# Altium schematic symbol library Sch for NFC.SchLib: 70 symbols (part 2 of 7)
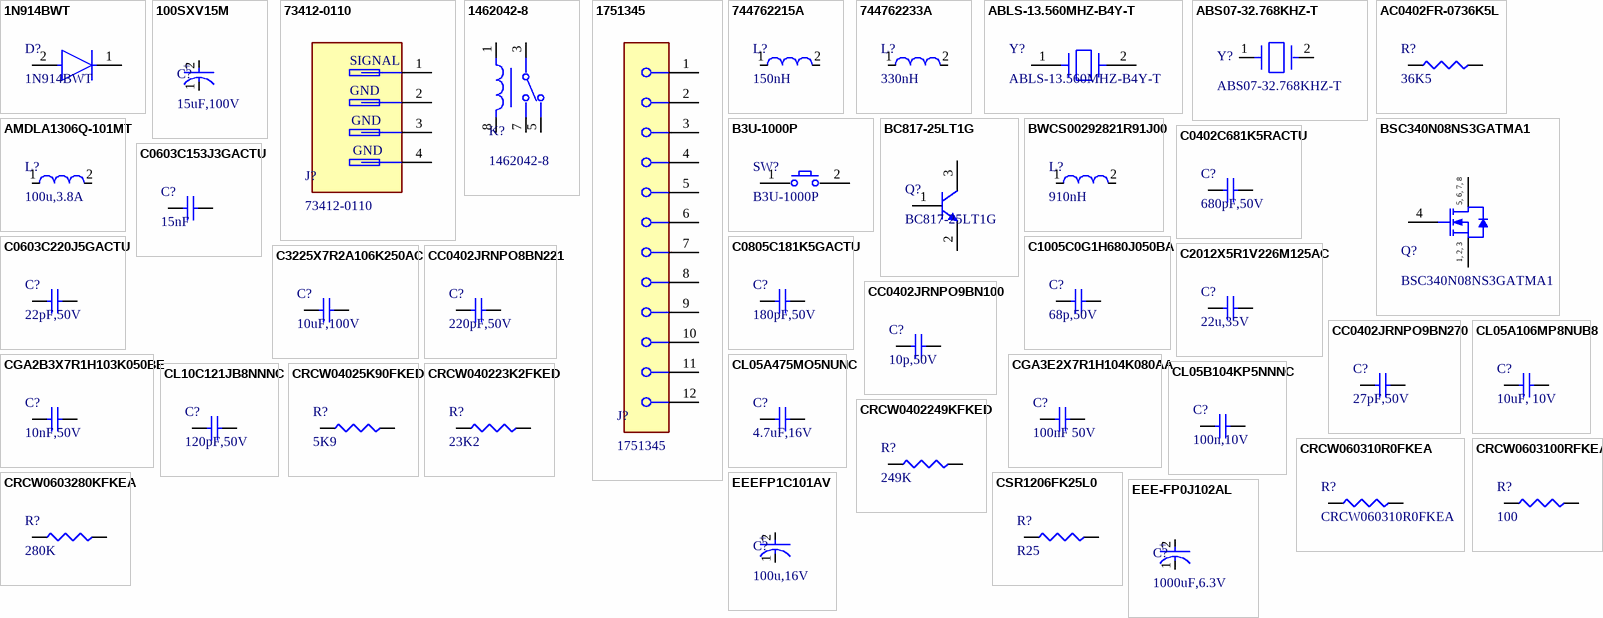
[diagram p2: symbols 1N914BWT to EEEFP1C101AV]

## AC0402FR-0736K5L
designator R?, comment 36K5
36.5 kOhms ±1% 0.063W, 1/16W Chip Resistor 0402 (1005 Metric) Automotive AEC-Q200, Moisture Resistant Thick Film; Manufacturer: Yageo Group; Manufacturer Part Number: AC0402FR-0736K5L; Max Power Dissipation: 63mW; Power Dissipation: 62.5mW; Value: 36.5kΩ; Temperature Coefficient: 100ppm/°C; Voltage Rating: 50V; Supplier: DigiKey; RoHS: Compliant; Category: Chip SMD Resistors; Stock: 33415; Pricing: 1=0.1, 10=0.008, 25=0.0068, 50=0.0052, 100=0.0041, 10000=0.00204 (USD); Case/Package: 0402; China RoHS: Non-Compliant; Composition: Thick Film; Features: Automotive AEC-Q200, Moisture Resistant; Height: 320µm; Length: 990.6µm; Lifecycle Status: Production; Max Operating Temperature: 155°C; Min Operating Temperature: -55°C; Mounting Technology: Surface Mount; Number of Terminals: 2; Number of Terminations: 2; Packaging: Tape & Reel; Power Rating: 62.5mW; REACH SVHC: Yes; Schedule B: 8533210045, 8533210045|8533210045|8533210045|8533210045|8533210045; Tolerance: 1%; Width: 500µm; Working Voltage: 50V; ComponentLink1URL: https://datasheet.octopart.com:443/AC0402FR-0736K5L-Yageo-datasheet-182189377.pdf?src-supplier=IHS; ComponentLink1Description: https://datasheet.octopart.com:443/AC0402FR-0736K5L-Yageo-datasheet-182189377.pdf?src-supplier=IHS; ComponentLink2URL: https://datasheet.octopart.com:443/AC0402FR-0736K5L-Yageo-datasheet-83209224.pdf?src-supplier=Upverter; ComponentLink2Description: https://datasheet.octopart.com:443/AC0402FR-0736K5L-Yageo-datasheet-83209224.pdf?src-supplier=Upverter; ComponentLink3URL: https://datasheet.octopart.com:443/AC0402FR-0736K5L-Yageo-datasheet-178509465.pdf?src-supplier=Newark; ComponentLink3Description: https://datasheet.octopart.com:443/AC0402FR-0736K5L-Yageo-datasheet-178509465.pdf?src-supplier=Newark; ComponentLink4URL: https://datasheet.octopart.com:443/AC0402FR-0736K5L-Yageo-datasheet-166720450.pdf?src-supplier=Future+Electronics; ComponentLink4Description: https://datasheet.octopart.com:443/AC0402FR-0736K5L-Yageo-datasheet-166720450.pdf?src-supplier=Future+Electronics; ComponentLink5URL: https://datasheet.octopart.com:443/AC0402FR-0736K5L-Yageo-datasheet-151884373.pdf?src-supplier=Future+Electronics; ComponentLink5Description: https://datasheet.octopart.com:443/AC0402FR-0736K5L-Yageo-datasheet-151884373.pdf?src-supplier=Future+Electronics; ComponentLink6URL: https://datasheet.octopart.com:443/AC0402FR-0736K5L-Yageo-datasheet-137699919.pdf?src-supplier=Future+Electronics; ComponentLink6Description: https://datasheet.octopart.com:443/AC0402FR-0736K5L-Yageo-datasheet-137699919.pdf?src-supplier=Future+Electronics; ComponentLink7URL: https://datasheet.octopart.com:443/AC0402FR-0736K5L-Yageo-Group-datasheet-164768995.pdf?src-supplier=ODG+(Origin+Data+Global); ComponentLink7Description: https://datasheet.octopart.com:443/AC0402FR-0736K5L-Yageo-Group-datasheet-164768995.pdf?src-supplier=ODG+(Origin+Data+Global); ComponentLink8URL: https://datasheet.octopart.com/AC0402FR-0736K5L-Yageo-datasheet-12512238.pdf; ComponentLink8Description: https://datasheet.octopart.com/AC0402FR-0736K5L-Yageo-datasheet-12512238.pdf; ComponentLink9URL: http://sigma.octopart.com:80/conflict_mineral_statement/Yageo-company-3.pdf?src-supplier=Compliance+Statements; ComponentLink9Description: http://sigma.octopart.com:80/conflict_mineral_statement/Yageo-company-3.pdf?src-supplier=Compliance+Statements; ComponentLink10URL: http://sigma.octopart.com:80/rohs_statement/Yageo-company-2.pdf?src-supplier=Compliance+Statements; ComponentLink10Description: http://sigma.octopart.com:80/rohs_statement/Yageo-company-2.pdf?src-supplier=Compliance+Statements; LCSC PN: C144766
footprint RESC1005X37N
pins: 1, 2

## AMDLA1306Q-101MT
designator L?, comment 100u,3.8A
100 µH Shielded Molded Inductor 3.8 A 161mOhm Max Nonstandard; Manufacturer: Abracon; Manufacturer Part Number: AMDLA1306Q-101MT; DC Resistance (DCR): 161mΩ; Value: 100µH; Number of Circuits: 1; Shielding: Yes; Test Frequency: 100kHz; Tolerance: 20%; Supplier: DigiKey; RoHS: Compliant; Category: Fixed Inductors; Pricing: 500=0.69478 (USD); Height: 6.2mm; Lifecycle Status: Production; Max Current Rating: 3.8A; Max Operating Temperature: 155°C; Min Operating Temperature: -55°C; Number of Terminals: 2; REACH SVHC: Yes; Width: 12.6mm; ComponentLink1URL: https://datasheet.octopart.com:443/AMDLA1306Q-101MT-Abracon-datasheet-182205435.pdf?src-supplier=IHS; ComponentLink1Description: https://datasheet.octopart.com:443/AMDLA1306Q-101MT-Abracon-datasheet-182205435.pdf?src-supplier=IHS; ComponentLink2URL: http://sigma.octopart.com:80/conflict_mineral_statement/Abracon-company-27.pdf?src-supplier=Compliance+Statements; ComponentLink2Description: http://sigma.octopart.com:80/conflict_mineral_statement/Abracon-company-27.pdf?src-supplier=Compliance+Statements; LCSC PN: C1016338
footprint COIL-SMD-100U-3.8A
pins: 1, 2

## B3U-1000P
designator SW?
Switch Tactile N.O. SPST Round Button Solder Tab 12VDC 50mA 200000Cycles 1.5N SMD Emboss T/R; Manufacturer: Omron; Manufacturer Package Identifier: B3U-1000P(M); Actuator Length: 400µm; Contact Resistance: 100mΩ; Electrical Life: 200kcycles; Illumination Type: Illuminated, Non-Illuminated; Max Voltage Rating (DC): 12V; Number of Positions: 1; Operating Force: 1.99N; Ratings: Dust Proof, IP40; Sealable: DUST PROOF; Switch Function: Off-Mom; Switch Travel: 150µm; Supplier: DigiKey; Manufacturer Part Number: B3U-1000P; RoHS: Compliant; Category: Tactile Switches; Stock: 62631; Pricing: 1=0.94, 10=0.759, 25=0.7368, 100=0.6909, 250=0.63796, 500=0.57526, 1000=0.57268, 3500=0.54684, 7000=0.54096, 10500=0.5099 (USD); Ambient Temperature Range High: 70°C; Color: Silver; Contact Current Rating: 50mA; Contact Material: Silver; Contact Plating: Silver; Current Rating: 50mA; Depth: 2.5mm; Height: 1.2mm; Insulation Resistance: 100MΩ; Lead Free: Lead Free; Length: 3mm; Life (Cycles): 200kcycles; Lifecycle Status: Production; Max Current Rating: 50mA; Max Operating Temperature: 70°C; Mechanical Life: 200kcycles; Min Operating Temperature: -25°C; Mounting Technology: Surface Mount; Pins: 2; Packaging: Tape and Reel; REACH SVHC: Yes; Termination: SMD/SMT; Throw Configuration: SPST; Voltage Rating (DC): 12V; Weight: 21.99923mg; Width: 2.5mm; ComponentLink1URL: https://datasheet.octopart.com:443/B3U-1000P-Omron-datasheet-62106914.pdf?src-supplier=IHS; ComponentLink1Description: https://datasheet.octopart.com:443/B3U-1000P-Omron-datasheet-62106914.pdf?src-supplier=IHS; ComponentLink2URL: https://datasheet.octopart.com:443/B3U-1000P-Omron-datasheet-10910421.pdf?src-supplier=RS+(Formerly+Allied+Electronics); ComponentLink2Description: https://datasheet.octopart.com:443/B3U-1000P-Omron-datasheet-10910421.pdf?src-supplier=RS+(Formerly+Allied+Electronics); ComponentLink3URL: https://datasheet.octopart.com:443/B3U-1000P-Omron-datasheet-5458533.pdf?src-supplier=Upverter; ComponentLink3Description: https://datasheet.octopart.com:443/B3U-1000P-Omron-datasheet-5458533.pdf?src-supplier=Upverter; ComponentLink4URL: https://datasheet.octopart.com:443/B3U-1000P-Omron-datasheet-11968313.pdf?src-supplier=SOS+electronic; ComponentLink4Description: https://datasheet.octopart.com:443/B3U-1000P-Omron-datasheet-11968313.pdf?src-supplier=SOS+electronic; ComponentLink5URL: https://datasheet.octopart.com:443/B3U-1000P-Omron-datasheet-110759174.pdf?src-supplier=Newark; ComponentLink5Description: https://datasheet.octopart.com:443/B3U-1000P-Omron-datasheet-110759174.pdf?src-supplier=Newark; ComponentLink6URL: https://datasheet.octopart.com:443/B3U-1000P-Omron-datasheet-506776.pdf?src-supplier=Newark; ComponentLink6Description: https://datasheet.octopart.com:443/B3U-1000P-Omron-datasheet-506776.pdf?src-supplier=Newark; ComponentLink7URL: https://datasheet.octopart.com:443/B3U-1000P-Omron-datasheet-17589256.pdf?src-supplier=TME; ComponentLink7Description: https://datasheet.octopart.com:443/B3U-1000P-Omron-datasheet-17589256.pdf?src-supplier=TME; LCSC PN: C231329
footprint SW_PUSHBOTTON_B3U-1000P
pins: 1, 2

## BC817-25LT1G
designator Q?
Bipolar (BJT) Transistor NPN 45 V 500 mA 100MHz 300 mW Surface Mount SOT-23-3 (TO-236); Manufacturer: onsemi; Manufacturer Lifecycle Status: ACTIVE; Collector Base Voltage (VCBO): 50V; Collector Emitter Breakdown Voltage: 45V; Collector Emitter Saturation Voltage: 700mV; Current Rating: 500mA; Element Configuration: Single; Emitter Base Voltage (VEBO): 5V; hFE Min: 160; Max Power Dissipation: 300mW; Number of Elements: 1; Supplier: DigiKey; Manufacturer Part Number: BC817-25LT1G; RoHS: Compliant; Category: BJTs; Stock: 142814; Pricing: 1=0.15, 10=0.094, 100=0.0578, 500=0.04192, 1000=0.03675, 3000=0.03013, 6000=0.02679, 9000=0.02508, 15000=0.02315, 21000=0.02201, 30000=0.0209, 75000=0.01847, 150000=0.01696, 300000=0.0157 (USD); Case/Package: SOT-23-3; China RoHS: Compliant; Collector Emitter Voltage (VCEO): 45V; Contact Plating: Tin; Frequency: 100MHz; Gain Bandwidth Product: 100MHz; Halogen Free: Halogen Free; Height: 940µm; Lead Free: Lead Free; Length: 2.9mm; Lifecycle Status: Production; Max Breakdown Voltage: 45V; Max Collector Current: 500mA; Clock Frequency: 100MHz; Max Operating Temperature: 150°C; Min Operating Temperature: -65°C; Pins: 3; Number of Terminals: 3; Packaging: Tape and Reel; Polarity: NPN; Power Dissipation: 300mW; Radiation Hardening: No; REACH SVHC: Yes; Schedule B: 8541210080, 8541210080|8541210080|8541210080|8541210080|8541210080|8541210080|8541210080|8541210080|8541210080|8541210080|8541210080|8541210080|8541210080|8541210080|8541210080|8541210080|8541210080|8541210080|8541210080|8541210080|8541210080|8541210080|8541210080|85; Transition Frequency: 100MHz; Width: 1.3mm; ComponentLink1URL: https://datasheet.octopart.com:443/BC817-25LT1G-onsemi-datasheet-175914671.pdf?src-supplier=IHS; ComponentLink1Description: https://datasheet.octopart.com:443/BC817-25LT1G-onsemi-datasheet-175914671.pdf?src-supplier=IHS; ComponentLink2URL: https://datasheet.octopart.com:443/BC817-25LT1G-ON-Semiconductor-datasheet-11547464.pdf?src-supplier=Farnell; ComponentLink2Description: https://datasheet.octopart.com:443/BC817-25LT1G-ON-Semiconductor-datasheet-11547464.pdf?src-supplier=Farnell; ComponentLink3URL: https://datasheet.octopart.com:443/BC817-25LT1G-onsemi-datasheet-170668855.pdf?src-supplier=Farnell; ComponentLink3Description: https://datasheet.octopart.com:443/BC817-25LT1G-onsemi-datasheet-170668855.pdf?src-supplier=Farnell; ComponentLink4URL: https://datasheet.octopart.com:443/BC817-25LT1G-ON-Semiconductor-datasheet-8110464.pdf?src-supplier=Newark; ComponentLink4Description: https://datasheet.octopart.com:443/BC817-25LT1G-ON-Semiconductor-datasheet-8110464.pdf?src-supplier=Newark; ComponentLink5URL: https://datasheet.octopart.com:443/BC817-25LT1G-ON-Semiconductor-datasheet-6400296.pdf?src-supplier=Newark; ComponentLink5Description: https://datasheet.octopart.com:443/BC817-25LT1G-ON-Semiconductor-datasheet-6400296.pdf?src-supplier=Newark; ComponentLink6URL: https://datasheet.octopart.com:443/BC817-25LT1G-ON-Semiconductor-datasheet-37521415.pdf?src-supplier=Newark; ComponentLink6Description: https://datasheet.octopart.com:443/BC817-25LT1G-ON-Semiconductor-datasheet-37521415.pdf?src-supplier=Newark; ComponentLink7URL: https://datasheet.octopart.com:443/BC817-25LT1G-ON-Semiconductor-datasheet-78758879.pdf?src-supplier=element14+APAC; ComponentLink7Description: https://datasheet.octopart.com:443/BC817-25LT1G-ON-Semiconductor-datasheet-78758879.pdf?src-supplier=element14+APAC; ComponentLink8URL: https://datasheet.octopart.com:443/BC817-25LT1G-ON-Semiconductor-datasheet-133521192.pdf?src-supplier=TME; ComponentLink8Description: https://datasheet.octopart.com:443/BC817-25LT1G-ON-Semiconductor-datasheet-133521192.pdf?src-supplier=TME; ComponentLink9URL: https://datasheet.octopart.com:443/BC817-25LT1G-ON-Semiconductor-datasheet-8514921.pdf?src-supplier=TME; ComponentLink9Description: https://datasheet.octopart.com:443/BC817-25LT1G-ON-Semiconductor-datasheet-8514921.pdf?src-supplier=TME; ComponentLink10URL: https://datasheet.octopart.com:443/BC817-25LT1G-ON-Semiconductor-datasheet-14064575.pdf?src-supplier=iiiC; ComponentLink10Description: https://datasheet.octopart.com:443/BC817-25LT1G-ON-Semiconductor-datasheet-14064575.pdf?src-supplier=iiiC; ComponentLink11URL: https://datasheet.octopart.com:443/BC817-25LT1G-ON-Semiconductor-datasheet-7835642.pdf?src-supplier=Jameco; ComponentLink11Description: https://datasheet.octopart.com:443/BC817-25LT1G-ON-Semiconductor-datasheet-7835642.pdf?src-supplier=Jameco; ComponentLink12URL: http://sigma.octopart.com:80/15540786/rohs_certificate/ON-Semiconductor-BC817-25LT1G.pdf?src-supplier=Compliance+Statements; ComponentLink12Description: http://sigma.octopart.com:80/15540786/rohs_certificate/ON-Semiconductor-BC817-25LT1G.pdf?src-supplier=Compliance+Statements; ComponentLink13URL: http://sigma.octopart.com:80/15674305/materials_sheet/ON-Semiconductor-BC817-25LT1G.csv?src-supplier=Compliance+Statements; ComponentLink13Description: http://sigma.octopart.com:80/15674305/materials_sheet/ON-Semiconductor-BC817-25LT1G.csv?src-supplier=Compliance+Statements; ComponentLink14URL: http://sigma.octopart.com:80/150605443/rohs_statement/ON-Semiconductor-BC817-25LT1G.pdf?src-supplier=Compliance+Statements; ComponentLink14Description: http://sigma.octopart.com:80/150605443/rohs_statement/ON-Semiconductor-BC817-25LT1G.pdf?src-supplier=Compliance+Statements; ComponentLink15URL: http://sigma.octopart.com:80/reach_statement/ON-Semiconductor-company-79.pdf?src-supplier=Compliance+Statements; ComponentLink15Description: http://sigma.octopart.com:80/reach_statement/ON-Semiconductor-company-79.pdf?src-supplier=Compliance+Statements; ComponentLink16URL: https://octopart.com:443/opatz8j6/c1?t=FMsNQxrESUyRCPfq8gEj-DENtH3fHkNbbx7UbSs21QzU062yKLGbhUPUpIPy5Xi2ZgBFMEWC5ngHpKXITW9o0rg8ZidRfVCdiF7DZxIUHj2cNfr8gf2p9sCWHDNE-sxkc6W2BttQviWA7OCItC8CjtgmEljBkJW6GmILXQbN04cp2GQUqNfi_HUatOdtl3tLh4sFZvT2DatCOdRbxwA31VwVMIuNhQnoyD21S4-x6Z79kKhsk9HH9ZODpaAlNr6omSmc7dMXiU0xuY1E2aXtxCwt8dPdGEJSzGfpDZ8ebuqGRHbHeVQrJUO3-XmL1gKZT6KZ_KTGZyS5nRtcW4b1fsWAnEei7rLIFfCT6CDP&src-supplier=Compliance+Statements; ComponentLink16Description: https://octopart.com:443/opatz8j6/c1?t=FMsNQxrESUyRCPfq8gEj-DENtH3fHkNbbx7UbSs21QzU062yKLGbhUPUpIPy5Xi2ZgBFMEWC5ngHpKXITW9o0rg8ZidRfVCdiF7DZxIUHj2cNfr8gf2p9sCWHDNE-sxkc6W2BttQviWA7OCItC8CjtgmEljBkJW6GmILXQbN04cp2GQUqNfi_HUatOdtl3tLh4sFZvT2DatCOdRbxwA31VwVMIuNhQnoyD21S4-x6Z79kKhsk9HH9ZODpaAlNr6omSmc7dMXiU0xuY1E2aXtxCwt8dPdGEJSzGfpDZ8ebuqGRHbHeVQrJUO3-XmL1gKZT6KZ_KTGZyS5nRtcW4b1fsWAnEei7rLIFfCT6CDP&src-supplier=Compliance+Statements; ComponentLink17URL: https://octopart.com:443/opatz8j6/c1?t=nUlRrpbF6WczGPO4pfpwBQnU8fi4iCX0epaFCyCK5fth2mOyA6hTCg2G-3-aRRCFw6eqU5JL2JnXrg6A8MVo7KmYt6NPPgcW19QVy9UVLDMw0wHerXAS-lYwjKrGA4wCzbzo9kSFOmU6PWTwVGPEy2GV6BB97n73KCQuFBzDaEH8TUlznyjJWhX0CV-DoAJbMyOpHAIak4qDziO0AtpTCMCbDoHlJldnv_22h4vP_pcU7ZMh310hdqdTKbwu0WkHWG1jzAabqffap4mChuo48GQ05l2336dYBbKSVi3hosrG61bKpJQhz_hO3_YlwH57PQUCekH-ynXCso-DdhQFN3ouqaKvySp1Gcbov0g&src-supplier=Compliance+Statements; ComponentLink17Description: https://octopart.com:443/opatz8j6/c1?t=nUlRrpbF6WczGPO4pfpwBQnU8fi4iCX0epaFCyCK5fth2mOyA6hTCg2G-3-aRRCFw6eqU5JL2JnXrg6A8MVo7KmYt6NPPgcW19QVy9UVLDMw0wHerXAS-lYwjKrGA4wCzbzo9kSFOmU6PWTwVGPEy2GV6BB97n73KCQuFBzDaEH8TUlznyjJWhX0CV-DoAJbMyOpHAIak4qDziO0AtpTCMCbDoHlJldnv_22h4vP_pcU7ZMh310hdqdTKbwu0WkHWG1jzAabqffap4mChuo48GQ05l2336dYBbKSVi3hosrG61bKpJQhz_hO3_YlwH57PQUCekH-ynXCso-DdhQFN3ouqaKvySp1Gcbov0g&src-supplier=Compliance+Statements; LCSC PN: C82635
footprint transitor_npn_ONSC-SOT-23-3-318-08_V (SOT23, 3-Leads, Body 2.92x1.3mm, Pitch 0.95mm)
pins: 1 B, 2 E, 3 C

## BSC340N08NS3GATMA1
designator Q?
N-Channel 80 V 7A (Ta), 23A (Tc) 2.5W (Ta), 32W (Tc) Surface Mount PG-TDSON-8-5; Manufacturer: Infineon; Drain to Source Resistance: 34mΩ; Drain to Source Voltage (Vdss): 80V; Fall Time: 2ns; Gate to Source Voltage (Vgs): 20V; Input Capacitance: 564pF; Number of Elements: 1; Rise Time: 3ns; Turn-Off Delay Time: 11ns; Turn-On Delay Time: 8ns; Supplier: DigiKey; Manufacturer Part Number: BSC340N08NS3GATMA1; RoHS: Compliant; Category: MOSFETs; Stock: 65358; Pricing: 1=0.78, 10=0.632, 100=0.4682, 500=0.41688, 1000=0.35938, 2000=0.34976 (USD); China RoHS: Compliant; Continuous Drain Current (ID): 7A; Halogen Free: Halogen Free; Lead Free: Contains Lead; Lifecycle Status: Production; Max Dual Supply Voltage: 80V; Max Operating Temperature: 150°C; Max Power Dissipation: 32W; Min Breakdown Voltage: 80V; Min Operating Temperature: -55°C; Mounting Technology: Surface Mount; Pins: 8; Number of Terminals: 8; On-State Resistance: 34mΩ; Package Quantity: 5000; Packaging: Tape & Reel; Power Dissipation: 32W; Radiation Hardening: No; Rds On Max: 34mΩ; REACH SVHC: No; Schedule B: 8541290080, 8541290080|8541290080|8541290080|8541290080|8541290080; ComponentLink1URL: https://datasheet.octopart.com:443/BSC340N08NS3GATMA1-Infineon-datasheet-11791424.pdf?src-supplier=IHS; ComponentLink1Description: https://datasheet.octopart.com:443/BSC340N08NS3GATMA1-Infineon-datasheet-11791424.pdf?src-supplier=IHS; ComponentLink2URL: https://datasheet.octopart.com:443/BSC340N08NS3-G-Infineon-datasheet-10738940.pdf?src-supplier=iiiC; ComponentLink2Description: https://datasheet.octopart.com:443/BSC340N08NS3-G-Infineon-datasheet-10738940.pdf?src-supplier=iiiC; ComponentLink3URL: http://sigma.octopart.com:80/conflict_mineral_statement/Infineon-company-51.pdf?src-supplier=Compliance+Statements; ComponentLink3Description: http://sigma.octopart.com:80/conflict_mineral_statement/Infineon-company-51.pdf?src-supplier=Compliance+Statements; LCSC PN: C83511
footprint TDSON-8-MOSFET-N-CHANNEL (TDSON, 8-Leads, Body 6.15x5.15mm, Pitch 1.27mm)
pins: 1 SOURCE, 2 SOURCE, 3 SOURCE, 4 GATE, 5 DRAIN, 6 DRAIN, 7 DRAIN, 8 DRAIN
text: 5, 6, 7, 8; 1, 2, 3

## BWCS00292821R91J00
designator L?, comment 910nH
910 nH Unshielded Drum Core, Wirewound Inductor 380 mA 1.68Ohm Max 1008 (2520 Metric); Manufacturer: Pulse Electronics; Manufacturer Part Number: BWCS00292821R91J00; Core Material: Ceramic; DC Resistance (DCR): 1.68Ω; Max Current Rating: 380mA; Number of Circuits: 1; Q Factor: 35; Self Resonant Frequency: 320MHz; Shielding: No; Test Frequency: 25MHz; Tolerance: 5%; Supplier: DigiKey; RoHS: Compliant; Category: Fixed Inductors; Pricing: 2000=0.08178 (USD); Case/Package: 1008; Height: 2.1mm; Value: 910nH; Lifecycle Status: Production; Max Operating Temperature: 125°C; Min Operating Temperature: -40°C; Number of Terminals: 2; REACH SVHC: Yes; Width: 2.79mm; ComponentLink1URL: https://datasheet.octopart.com:443/BWCS00292821R91J00-Pulse-datasheet-180094650.pdf?src-supplier=IHS; ComponentLink1Description: https://datasheet.octopart.com:443/BWCS00292821R91J00-Pulse-datasheet-180094650.pdf?src-supplier=IHS; ComponentLink2URL: https://datasheet.octopart.com:443/BWCS00292821R91J00-Pulse-datasheet-155427417.pdf?src-supplier=IHS; ComponentLink2Description: https://datasheet.octopart.com:443/BWCS00292821R91J00-Pulse-datasheet-155427417.pdf?src-supplier=IHS; LCSC PN: C5564290
footprint COIL_910nH_SMD
pins: 1, 2

## C0402C681K5RACTU
designator C?, comment 680pF,50V
680 pF ±10% 50V Ceramic Capacitor X7R 0402 (1005 Metric); Manufacturer: KEMET; Manufacturer Part Number: C0402C681K5RACTU; Dissipation Factor: 2.5%; Supplier: DigiKey; RoHS: Compliant; Category: Ceramic Capacitors; Stock: 53449; Pricing: 1=0.1, 10=0.03, 50=0.0202, 100=0.0172, 500=0.01222, 1000=0.00952, 2500=0.00676, 5000=0.00661, 10000=0.00388 (USD); Value: 680pF; Case/Package: 0402; Case Code (Imperial): 0402; China RoHS: Compliant; Depth: 500µm; Dielectric: X7R; Dielectric Material: Ceramic; Height: 500µm; Lead Free: Lead Free; Lead Pitch: 300µm; Length: 1mm; Lifecycle Status: Production; Material: Ceramic; Max Operating Temperature: 125°C; Min Operating Temperature: -55°C; Mounting Technology: Surface Mount; Pins: 2; Number of Terminals: 2; Packaging: Cut Tape; Radiation Hardening: No; REACH SVHC: Yes; Schedule B: 8532240020, 8532240020|8532240020, 8532240020|8532240020|8532240020, 8532240020|8532240020|8532240020|8532240020; Termination: SMD/SMT; Thickness: 558.8µm; Tolerance: 10%; Voltage: 50V; Voltage Rating: 50V; Voltage Rating (DC): 50V; Width: 500µm; ComponentLink1URL: https://datasheet.octopart.com:443/C0402C681K5RACTU-KEMET-datasheet-178445679.pdf?src-supplier=IHS; ComponentLink1Description: https://datasheet.octopart.com:443/C0402C681K5RACTU-KEMET-datasheet-178445679.pdf?src-supplier=IHS; ComponentLink2URL: https://datasheet.octopart.com:443/C0402C681K5RACTU-KEMET-datasheet-137357759.pdf?src-supplier=Farnell; ComponentLink2Description: https://datasheet.octopart.com:443/C0402C681K5RACTU-KEMET-datasheet-137357759.pdf?src-supplier=Farnell; ComponentLink3URL: https://datasheet.octopart.com:443/C0402C681K5RACTU-KEMET-datasheet-101575575.pdf?src-supplier=Farnell; ComponentLink3Description: https://datasheet.octopart.com:443/C0402C681K5RACTU-KEMET-datasheet-101575575.pdf?src-supplier=Farnell; ComponentLink4URL: https://datasheet.octopart.com:443/C0402C681K5RACTU-KEMET-datasheet-176142131.pdf?src-supplier=Farnell; ComponentLink4Description: https://datasheet.octopart.com:443/C0402C681K5RACTU-KEMET-datasheet-176142131.pdf?src-supplier=Farnell; ComponentLink5URL: https://datasheet.octopart.com:443/C0402C681K5RACTU-Kemet-datasheet-5313890.pdf?src-supplier=Newark; ComponentLink5Description: https://datasheet.octopart.com:443/C0402C681K5RACTU-Kemet-datasheet-5313890.pdf?src-supplier=Newark; ComponentLink6URL: https://datasheet.octopart.com:443/C0402C681K5RACTU-Kemet-datasheet-12608295.pdf?src-supplier=Newark; ComponentLink6Description: https://datasheet.octopart.com:443/C0402C681K5RACTU-Kemet-datasheet-12608295.pdf?src-supplier=Newark; ComponentLink7URL: https://datasheet.octopart.com:443/C0402C681K5RACTU-Kemet-datasheet-11992184.pdf?src-supplier=Newark; ComponentLink7Description: https://datasheet.octopart.com:443/C0402C681K5RACTU-Kemet-datasheet-11992184.pdf?src-supplier=Newark; ComponentLink8URL: https://datasheet.octopart.com:443/C0402C681K5RACTU-Kemet-datasheet-10942409.pdf?src-supplier=Newark; ComponentLink8Description: https://datasheet.octopart.com:443/C0402C681K5RACTU-Kemet-datasheet-10942409.pdf?src-supplier=Newark; ComponentLink9URL: https://datasheet.octopart.com:443/C0402C681K5RACTU-Kemet-datasheet-10404442.pdf?src-supplier=Newark; ComponentLink9Description: https://datasheet.octopart.com:443/C0402C681K5RACTU-Kemet-datasheet-10404442.pdf?src-supplier=Newark; ComponentLink10URL: https://datasheet.octopart.com:443/C0402C681K5RACTU-KEMET-datasheet-176142135.pdf?src-supplier=Newark; ComponentLink10Description: https://datasheet.octopart.com:443/C0402C681K5RACTU-KEMET-datasheet-176142135.pdf?src-supplier=Newark; ComponentLink11URL: https://datasheet.octopart.com:443/C0402C681K5RACTU-Kemet-datasheet-8764837.pdf?src-supplier=Newark; ComponentLink11Description: https://datasheet.octopart.com:443/C0402C681K5RACTU-Kemet-datasheet-8764837.pdf?src-supplier=Newark; ComponentLink12URL: https://datasheet.octopart.com:443/C0402C681K5RACTU-Kemet-datasheet-8480123.pdf?src-supplier=Newark; ComponentLink12Description: https://datasheet.octopart.com:443/C0402C681K5RACTU-Kemet-datasheet-8480123.pdf?src-supplier=Newark; ComponentLink13URL: https://datasheet.octopart.com:443/C0402C681K5RACTU-Kemet-datasheet-5390537.pdf?src-supplier=Newark; ComponentLink13Description: https://datasheet.octopart.com:443/C0402C681K5RACTU-Kemet-datasheet-5390537.pdf?src-supplier=Newark; ComponentLink14URL: https://datasheet.octopart.com:443/C0402C681K5RACTU-Kemet-datasheet-5393970.pdf?src-supplier=Newark; ComponentLink14Description: https://datasheet.octopart.com:443/C0402C681K5RACTU-Kemet-datasheet-5393970.pdf?src-supplier=Newark; ComponentLink15URL: https://datasheet.octopart.com:443/C0402C681K5RACTU-Kemet-datasheet-8502025.pdf?src-supplier=Newark; ComponentLink15Description: https://datasheet.octopart.com:443/C0402C681K5RACTU-Kemet-datasheet-8502025.pdf?src-supplier=Newark; ComponentLink16URL: https://datasheet.octopart.com:443/C0402C681K5RACTU-Kemet-datasheet-7541751.pdf?src-supplier=Newark; ComponentLink16Description: https://datasheet.octopart.com:443/C0402C681K5RACTU-Kemet-datasheet-7541751.pdf?src-supplier=Newark; ComponentLink17URL: https://datasheet.octopart.com:443/C0402C681K5RACTU-Kemet-datasheet-161801.pdf?src-supplier=Newark; ComponentLink17Description: https://datasheet.octopart.com:443/C0402C681K5RACTU-Kemet-datasheet-161801.pdf?src-supplier=Newark; ComponentLink18URL: https://datasheet.octopart.com:443/C0402C681K5RACTU-KEMET-datasheet-157246124.pdf?src-supplier=Electro+Sonic; ComponentLink18Description: https://datasheet.octopart.com:443/C0402C681K5RACTU-KEMET-datasheet-157246124.pdf?src-supplier=Electro+Sonic; ComponentLink19URL: https://datasheet.octopart.com:443/C0402C681K5RACTU-KEMET-datasheet-32036385.pdf?src-supplier=Electro+Sonic; ComponentLink19Description: https://datasheet.octopart.com:443/C0402C681K5RACTU-KEMET-datasheet-32036385.pdf?src-supplier=Electro+Sonic; ComponentLink20URL: https://datasheet.octopart.com:443/C0402C681K5RACTU-KEMET-datasheet-164512540.pdf?src-supplier=TME; ComponentLink20Description: https://datasheet.octopart.com:443/C0402C681K5RACTU-KEMET-datasheet-164512540.pdf?src-supplier=TME; ComponentLink21URL: https://datasheet.octopart.com:443/C0402C681K5RACTU-KEMET-datasheet-113436775.pdf?src-supplier=TME; ComponentLink21Description: https://datasheet.octopart.com:443/C0402C681K5RACTU-KEMET-datasheet-113436775.pdf?src-supplier=TME; ComponentLink22URL: https://datasheet.octopart.com:443/C0402C681K5RACTU-KEMET-datasheet-68331906.pdf?src-supplier=TME; ComponentLink22Description: https://datasheet.octopart.com:443/C0402C681K5RACTU-KEMET-datasheet-68331906.pdf?src-supplier=TME; ComponentLink23URL: https://datasheet.octopart.com:443/C0402C681K5RACTU-KEMET-datasheet-110724412.pdf?src-supplier=RS+(Formerly+Allied+Electronics); ComponentLink23Description: https://datasheet.octopart.com:443/C0402C681K5RACTU-KEMET-datasheet-110724412.pdf?src-supplier=RS+(Formerly+Allied+Electronics); ComponentLink24URL: https://datasheet.octopart.com:443/C0402C681K5RACTU-Kemet-datasheet-60243841.pdf?src-supplier=RS+(Formerly+Allied+Electronics); ComponentLink24Description: https://datasheet.octopart.com:443/C0402C681K5RACTU-Kemet-datasheet-60243841.pdf?src-supplier=RS+(Formerly+Allied+Electronics); ComponentLink25URL: https://datasheet.octopart.com:443/C0402C681K5RACTU-Kemet-datasheet-464.pdf?src-supplier=RS+(Formerly+Allied+Electronics); ComponentLink25Description: https://datasheet.octopart.com:443/C0402C681K5RACTU-Kemet-datasheet-464.pdf?src-supplier=RS+(Formerly+Allied+Electronics); ComponentLink26URL: https://datasheet.octopart.com/C0402C681K5RACTU-KEMET-datasheet-84169754.pdf; ComponentLink26Description: https://datasheet.octopart.com/C0402C681K5RACTU-KEMET-datasheet-84169754.pdf; ComponentLink27URL: https://datasheet.octopart.com:443/C0402C681K5RACTU-Kemet-datasheet-11599449.pdf?src-supplier=Arrow+Electronics; ComponentLink27Description: https://datasheet.octopart.com:443/C0402C681K5RACTU-Kemet-datasheet-11599449.pdf?src-supplier=Arrow+Electronics; LCSC PN: C599613
footprint Kemet_C0402-680PF-50
pins: 1, 2

## C0603C153J3GACTU
designator C?, comment 15nF
15nF ±5% 25V Ceramic Capacitor C0G, NP0 0603 (1608 Metric); Manufacturer: KEMET; Manufacturer Part Number: C0603C153J3GACTU; Dissipation Factor: 0.1%; Temperature Coefficient: 30ppm/°C; Supplier: DigiKey; RoHS: Compliant; Category: Ceramic Capacitors; Stock: 20065; Pricing: 1=0.37, 10=0.221, 50=0.163, 100=0.1376, 500=0.10484, 1000=0.0951 (USD); Value: 15nF; Case/Package: 0603; Case Code (Imperial): 0603; Case Code (Metric): 1608; China RoHS: Compliant; Contact Plating: Tin; Depth: 800µm; Dielectric: C0G; Dielectric Material: Ceramic; Height: 800µm; Lead Free: Lead Free; Length: 1.6mm; Lifecycle Status: Production; Material: Ceramic; Max Operating Temperature: 125°C; Min Operating Temperature: -55°C; Mounting Technology: Surface Mount; Pins: 2; Number of Terminals: 2; Packaging: Cut Tape; REACH SVHC: Yes; Schedule B: 8532240020, 8532240020|8532240020, 8532240020|8532240020|8532240020, 8532240020|8532240020|8532240020|8532240020; Termination: SMD/SMT; Thickness: 863.6µm; Tolerance: 5%; Voltage: 25V; Voltage Rating: 25V; Voltage Rating (DC): 25V; Width: 800µm; ComponentLink1URL: https://datasheet.octopart.com:443/C0603C153J3GACTU-KEMET-datasheet-178132257.pdf?src-supplier=IHS; ComponentLink1Description: https://datasheet.octopart.com:443/C0603C153J3GACTU-KEMET-datasheet-178132257.pdf?src-supplier=IHS; ComponentLink2URL: https://datasheet.octopart.com:443/C0603C153J3GAC7867-KEMET-datasheet-10540709.pdf?src-supplier=IHS; ComponentLink2Description: https://datasheet.octopart.com:443/C0603C153J3GAC7867-KEMET-datasheet-10540709.pdf?src-supplier=IHS; ComponentLink3URL: https://datasheet.octopart.com:443/C0603C153J3GACTU-KEMET-datasheet-137357764.pdf?src-supplier=Upverter; ComponentLink3Description: https://datasheet.octopart.com:443/C0603C153J3GACTU-KEMET-datasheet-137357764.pdf?src-supplier=Upverter; ComponentLink4URL: https://datasheet.octopart.com:443/C0603C153J3GACTU-KEMET-datasheet-68331921.pdf?src-supplier=Farnell; ComponentLink4Description: https://datasheet.octopart.com:443/C0603C153J3GACTU-KEMET-datasheet-68331921.pdf?src-supplier=Farnell; ComponentLink5URL: https://datasheet.octopart.com:443/C0603C153J3GACTU-KEMET-datasheet-102648314.pdf?src-supplier=Farnell; ComponentLink5Description: https://datasheet.octopart.com:443/C0603C153J3GACTU-KEMET-datasheet-102648314.pdf?src-supplier=Farnell; ComponentLink6URL: https://datasheet.octopart.com:443/C0603C153J3GACTU-Kemet-datasheet-5308203.pdf?src-supplier=Farnell; ComponentLink6Description: https://datasheet.octopart.com:443/C0603C153J3GACTU-Kemet-datasheet-5308203.pdf?src-supplier=Farnell; ComponentLink7URL: https://datasheet.octopart.com:443/C0603C153J3GACTU-KEMET-datasheet-176289261.pdf?src-supplier=element14+APAC; ComponentLink7Description: https://datasheet.octopart.com:443/C0603C153J3GACTU-KEMET-datasheet-176289261.pdf?src-supplier=element14+APAC; ComponentLink8URL: https://datasheet.octopart.com:443/C0603C153J3GACTU-KEMET-datasheet-178087916.pdf?src-supplier=element14+APAC; ComponentLink8Description: https://datasheet.octopart.com:443/C0603C153J3GACTU-KEMET-datasheet-178087916.pdf?src-supplier=element14+APAC; ComponentLink9URL: https://datasheet.octopart.com:443/C0603C153J3GACTU-Kemet-datasheet-66093294.pdf?src-supplier=element14+APAC; ComponentLink9Description: https://datasheet.octopart.com:443/C0603C153J3GACTU-Kemet-datasheet-66093294.pdf?src-supplier=element14+APAC; ComponentLink10URL: https://datasheet.octopart.com:443/C0603C153J3GACTU-Kemet-datasheet-66634713.pdf?src-supplier=element14+APAC; ComponentLink10Description: https://datasheet.octopart.com:443/C0603C153J3GACTU-Kemet-datasheet-66634713.pdf?src-supplier=element14+APAC; ComponentLink11URL: https://datasheet.octopart.com:443/C0603C153J3GACTU-KEMET-datasheet-157246123.pdf?src-supplier=Electro+Sonic; ComponentLink11Description: https://datasheet.octopart.com:443/C0603C153J3GACTU-KEMET-datasheet-157246123.pdf?src-supplier=Electro+Sonic; ComponentLink12URL: https://datasheet.octopart.com:443/C0603C153J3GACTU-KEMET-datasheet-176142193.pdf?src-supplier=Newark; ComponentLink12Description: https://datasheet.octopart.com:443/C0603C153J3GACTU-KEMET-datasheet-176142193.pdf?src-supplier=Newark; ComponentLink13URL: https://datasheet.octopart.com:443/C0603C153J3GACTU-KEMET-datasheet-101575703.pdf?src-supplier=Newark; ComponentLink13Description: https://datasheet.octopart.com:443/C0603C153J3GACTU-KEMET-datasheet-101575703.pdf?src-supplier=Newark; ComponentLink14URL: https://datasheet.octopart.com:443/C0603C153J3GACTU-Kemet-datasheet-62307647.pdf?src-supplier=Newark; ComponentLink14Description: https://datasheet.octopart.com:443/C0603C153J3GACTU-Kemet-datasheet-62307647.pdf?src-supplier=Newark; ComponentLink15URL: https://datasheet.octopart.com:443/C0603C153J3GACTU-Kemet-datasheet-67830794.pdf?src-supplier=TME; ComponentLink15Description: https://datasheet.octopart.com:443/C0603C153J3GACTU-Kemet-datasheet-67830794.pdf?src-supplier=TME; ComponentLink16URL: https://datasheet.octopart.com/C0603C153J3GACTU-KEMET-datasheet-84169754.pdf; ComponentLink16Description: https://datasheet.octopart.com/C0603C153J3GACTU-KEMET-datasheet-84169754.pdf; ComponentLink17URL: https://datasheet.octopart.com:443/C0603C153J3GACTU-Kemet-datasheet-60243840.pdf?src-supplier=RS+(Formerly+Allied+Electronics); ComponentLink17Description: https://datasheet.octopart.com:443/C0603C153J3GACTU-Kemet-datasheet-60243840.pdf?src-supplier=RS+(Formerly+Allied+Electronics)
footprint 0603-Cap-15nf-25v
pins: 1, 2

## C0603C220J5GACTU
designator C?, comment 22pF,50V
22 pF ±5% 50V Ceramic Capacitor C0G, NP0 0603 (1608 Metric); Manufacturer: KEMET; Manufacturer Part Number: C0603C220J5GACTU; Temperature Coefficient: 30ppm/°C; Supplier: DigiKey; RoHS: Compliant; Category: Ceramic Capacitors; Stock: 154784; Pricing: 1=0.12, 10=0.069, 50=0.0476, 100=0.0413, 500=0.03068, 1000=0.0274, 4000=0.02251, 8000=0.01825, 12000=0.01762, 20000=0.0175, 28000=0.01691, 40000=0.01684, 48000=0.0168, 96000=0.01646, 100000=0.01642 (USD); Value: 22pF; Case/Package: 0603; Case Code (Imperial): 0603; China RoHS: Compliant; Contact Material: Tin; Depth: 800µm; Dielectric: C0G; Dielectric Material: Ceramic; Height: 800µm; Lead Free: Lead Free; Length: 1.6mm; Lifecycle Status: Production; Material: Ceramic; Max Operating Temperature: 125°C; Min Operating Temperature: -55°C; Mounting Technology: Surface Mount; Pins: 2; Number of Terminals: 2; Radiation Hardening: No; REACH SVHC: Yes; Schedule B: 8532240020, 8532240020|8532240020, 8532240020|8532240020|8532240020, 8532240020|8532240020|8532240020|8532240020; Termination: SMD/SMT; Thickness: 863.6µm; Tolerance: 5%; Voltage: 50V; Voltage Rating: 50V; Voltage Rating (DC): 50V; Weight: 2.012816mg; Width: 800µm; ComponentLink1URL: https://datasheet.octopart.com:443/C0603C220J5GACTU-KEMET-datasheet-178132257.pdf?src-supplier=IHS; ComponentLink1Description: https://datasheet.octopart.com:443/C0603C220J5GACTU-KEMET-datasheet-178132257.pdf?src-supplier=IHS; ComponentLink2URL: https://datasheet.octopart.com:443/C0603C220J5GAC7867-KEMET-datasheet-184792853.pdf?src-supplier=IHS; ComponentLink2Description: https://datasheet.octopart.com:443/C0603C220J5GAC7867-KEMET-datasheet-184792853.pdf?src-supplier=IHS; ComponentLink3URL: https://datasheet.octopart.com:443/C0603C220J5GACTU-KEMET-datasheet-68331921.pdf?src-supplier=Upverter; ComponentLink3Description: https://datasheet.octopart.com:443/C0603C220J5GACTU-KEMET-datasheet-68331921.pdf?src-supplier=Upverter; ComponentLink4URL: https://datasheet.octopart.com:443/C0603C220J5GACTU-KEMET-datasheet-137357764.pdf?src-supplier=Upverter; ComponentLink4Description: https://datasheet.octopart.com:443/C0603C220J5GACTU-KEMET-datasheet-137357764.pdf?src-supplier=Upverter; ComponentLink5URL: https://datasheet.octopart.com:443/C0603C220J5GACTU-Kemet-datasheet-5314449.pdf?src-supplier=Newark; ComponentLink5Description: https://datasheet.octopart.com:443/C0603C220J5GACTU-Kemet-datasheet-5314449.pdf?src-supplier=Newark; ComponentLink6URL: https://datasheet.octopart.com:443/C0603C220J5GACTU-Kemet-datasheet-10282724.pdf?src-supplier=Newark; ComponentLink6Description: https://datasheet.octopart.com:443/C0603C220J5GACTU-Kemet-datasheet-10282724.pdf?src-supplier=Newark; ComponentLink7URL: https://datasheet.octopart.com:443/C0603C220J5GACTU-KEMET-datasheet-176142189.pdf?src-supplier=Newark; ComponentLink7Description: https://datasheet.octopart.com:443/C0603C220J5GACTU-KEMET-datasheet-176142189.pdf?src-supplier=Newark; ComponentLink8URL: https://datasheet.octopart.com:443/C0603C220J5GACTU-KEMET-datasheet-149521956.pdf?src-supplier=Farnell; ComponentLink8Description: https://datasheet.octopart.com:443/C0603C220J5GACTU-KEMET-datasheet-149521956.pdf?src-supplier=Farnell; ComponentLink9URL: https://datasheet.octopart.com:443/C0603C220J5GACTU-KEMET-datasheet-101575729.pdf?src-supplier=Farnell; ComponentLink9Description: https://datasheet.octopart.com:443/C0603C220J5GACTU-KEMET-datasheet-101575729.pdf?src-supplier=Farnell; ComponentLink10URL: https://datasheet.octopart.com:443/C0603C220J5GACTU-Kemet-datasheet-10540709.pdf?src-supplier=Farnell; ComponentLink10Description: https://datasheet.octopart.com:443/C0603C220J5GACTU-Kemet-datasheet-10540709.pdf?src-supplier=Farnell; ComponentLink11URL: https://datasheet.octopart.com:443/C0603C220J5GACTU-KEMET-datasheet-176142187.pdf?src-supplier=element14+APAC; ComponentLink11Description: https://datasheet.octopart.com:443/C0603C220J5GACTU-KEMET-datasheet-176142187.pdf?src-supplier=element14+APAC; ComponentLink12URL: https://datasheet.octopart.com:443/C0603C220J5GACTU-KEMET-datasheet-176142144.pdf?src-supplier=element14+APAC; ComponentLink12Description: https://datasheet.octopart.com:443/C0603C220J5GACTU-KEMET-datasheet-176142144.pdf?src-supplier=element14+APAC; ComponentLink13URL: https://datasheet.octopart.com:443/C0603C220J5GACTU-Kemet-datasheet-22084244.pdf?src-supplier=element14+APAC; ComponentLink13Description: https://datasheet.octopart.com:443/C0603C220J5GACTU-Kemet-datasheet-22084244.pdf?src-supplier=element14+APAC; ComponentLink14URL: https://datasheet.octopart.com:443/C0603C220J5GACTU-Kemet-datasheet-48952580.pdf?src-supplier=element14+APAC; ComponentLink14Description: https://datasheet.octopart.com:443/C0603C220J5GACTU-Kemet-datasheet-48952580.pdf?src-supplier=element14+APAC; ComponentLink15URL: https://datasheet.octopart.com:443/C0603C220J5GACTU-KEMET-datasheet-157246123.pdf?src-supplier=Electro+Sonic; ComponentLink15Description: https://datasheet.octopart.com:443/C0603C220J5GACTU-KEMET-datasheet-157246123.pdf?src-supplier=Electro+Sonic; ComponentLink16URL: https://datasheet.octopart.com:443/C0603C220J5GACTU-KEMET-datasheet-41232428.pdf?src-supplier=Electro+Sonic; ComponentLink16Description: https://datasheet.octopart.com:443/C0603C220J5GACTU-KEMET-datasheet-41232428.pdf?src-supplier=Electro+Sonic; ComponentLink17URL: https://datasheet.octopart.com:443/C0603C220J5GACTU-KEMET-datasheet-96931677.pdf?src-supplier=TME; ComponentLink17Description: https://datasheet.octopart.com:443/C0603C220J5GACTU-KEMET-datasheet-96931677.pdf?src-supplier=TME; ComponentLink18URL: https://datasheet.octopart.com/C0603C220J5GACTU-KEMET-datasheet-84169754.pdf; ComponentLink18Description: https://datasheet.octopart.com/C0603C220J5GACTU-KEMET-datasheet-84169754.pdf; ComponentLink19URL: https://datasheet.octopart.com:443/C0603C220J5GAC7867-KEMET-datasheet-164857143.pdf?src-supplier=Burklin+Elektronik; ComponentLink19Description: https://datasheet.octopart.com:443/C0603C220J5GAC7867-KEMET-datasheet-164857143.pdf?src-supplier=Burklin+Elektronik; ComponentLink20URL: https://datasheet.octopart.com:443/C0603C220J5GAC-TU-Kemet-datasheet-7278821.pdf?src-supplier=Jameco; ComponentLink20Description: https://datasheet.octopart.com:443/C0603C220J5GAC-TU-Kemet-datasheet-7278821.pdf?src-supplier=Jameco; ComponentLink21URL: https://datasheet.octopart.com:443/C0603C220J5GACTU-Kemet-datasheet-464.pdf?src-supplier=RS+(Formerly+Allied+Electronics); ComponentLink21Description: https://datasheet.octopart.com:443/C0603C220J5GACTU-Kemet-datasheet-464.pdf?src-supplier=RS+(Formerly+Allied+Electronics); LCSC PN: C2167297
footprint 22Pf_50V_Kemet_C0603C220J5GACTU_0
pins: 1, 2

## C0805C181K5GACTU
designator C?, comment 180pF,50V
180 pF ±10% 50V Ceramic Capacitor C0G, NP0 0805 (2012 Metric); Manufacturer: KEMET; Manufacturer Part Number: C0805C181K5GACTU; Dissipation Factor: 0.1%; Temperature Coefficient: 30ppm/°C; Supplier: DigiKey; RoHS: Compliant; Category: Ceramic Capacitors; Stock: 25815; Pricing: 1=0.23, 10=0.11, 50=0.0658, 100=0.0518, 500=0.04024 (USD); Value: 180pF; Case/Package: 0805; Case Code (Imperial): 0805; Case Code (Metric): 2012; China RoHS: Compliant; Depth: 1.25mm; Dielectric: C0G; Dielectric Material: Ceramic; Height: 780µm; Lead Free: Lead Free; Lead Pitch: 750µm; Length: 2mm; Lifecycle Status: Production; Material: Ceramic; Max Operating Temperature: 125°C; Min Operating Temperature: -55°C; Mounting Technology: Surface Mount; Number of Terminals: 2; Packaging: Cut Tape; Radiation Hardening: No; REACH SVHC: Yes; Schedule B: 8532240020, 8532240020|8532240020|8532240020|8532240020|8532240020; Termination: SMD/SMT; Thickness: 889µm; Tolerance: 10%; Voltage Rating: 50V; Voltage Rating (DC): 50V; Width: 1.25mm; ComponentLink1URL: https://datasheet.octopart.com:443/C0805C181K5GACTU-KEMET-datasheet-178132257.pdf?src-supplier=IHS; ComponentLink1Description: https://datasheet.octopart.com:443/C0805C181K5GACTU-KEMET-datasheet-178132257.pdf?src-supplier=IHS; ComponentLink2URL: https://datasheet.octopart.com:443/C0805C181K5GAC7800-KEMET-datasheet-182041591.pdf?src-supplier=IHS; ComponentLink2Description: https://datasheet.octopart.com:443/C0805C181K5GAC7800-KEMET-datasheet-182041591.pdf?src-supplier=IHS; ComponentLink3URL: https://datasheet.octopart.com:443/C0805C181K5GACTU-KEMET-datasheet-68331921.pdf?src-supplier=Upverter; ComponentLink3Description: https://datasheet.octopart.com:443/C0805C181K5GACTU-KEMET-datasheet-68331921.pdf?src-supplier=Upverter; ComponentLink4URL: https://datasheet.octopart.com:443/C0805C181K5GACTU-KEMET-datasheet-86780271.pdf?src-supplier=Newark; ComponentLink4Description: https://datasheet.octopart.com:443/C0805C181K5GACTU-KEMET-datasheet-86780271.pdf?src-supplier=Newark; ComponentLink5URL: https://datasheet.octopart.com:443/C0805C181K5GACTU-KEMET-datasheet-176289624.pdf?src-supplier=Newark; ComponentLink5Description: https://datasheet.octopart.com:443/C0805C181K5GACTU-KEMET-datasheet-176289624.pdf?src-supplier=Newark; ComponentLink6URL: https://datasheet.octopart.com:443/C0805C181K5GACTU-Kemet-datasheet-27203262.pdf?src-supplier=Newark; ComponentLink6Description: https://datasheet.octopart.com:443/C0805C181K5GACTU-Kemet-datasheet-27203262.pdf?src-supplier=Newark; ComponentLink7URL: https://datasheet.octopart.com:443/C0805C181K5GACTU-Kemet-datasheet-10540709.pdf?src-supplier=Newark; ComponentLink7Description: https://datasheet.octopart.com:443/C0805C181K5GACTU-Kemet-datasheet-10540709.pdf?src-supplier=Newark; ComponentLink8URL: https://datasheet.octopart.com:443/C0805C181K5GACTU-KEMET-datasheet-86453355.pdf?src-supplier=Farnell; ComponentLink8Description: https://datasheet.octopart.com:443/C0805C181K5GACTU-KEMET-datasheet-86453355.pdf?src-supplier=Farnell; ComponentLink9URL: https://datasheet.octopart.com:443/C0805C181K5GACTU-KEMET-datasheet-149533543.pdf?src-supplier=Farnell; ComponentLink9Description: https://datasheet.octopart.com:443/C0805C181K5GACTU-KEMET-datasheet-149533543.pdf?src-supplier=Farnell; ComponentLink10URL: https://datasheet.octopart.com:443/C0805C181K5GACTU-KEMET-datasheet-68494377.pdf?src-supplier=element14+APAC; ComponentLink10Description: https://datasheet.octopart.com:443/C0805C181K5GACTU-KEMET-datasheet-68494377.pdf?src-supplier=element14+APAC; ComponentLink11URL: https://datasheet.octopart.com:443/C0805C181K5GACTU-KEMET-datasheet-37178240.pdf?src-supplier=Electro+Sonic; ComponentLink11Description: https://datasheet.octopart.com:443/C0805C181K5GACTU-KEMET-datasheet-37178240.pdf?src-supplier=Electro+Sonic; ComponentLink12URL: https://datasheet.octopart.com/C0805C181K5GACTU-KEMET-datasheet-84169754.pdf; ComponentLink12Description: https://datasheet.octopart.com/C0805C181K5GACTU-KEMET-datasheet-84169754.pdf; LCSC PN: C2168955
footprint C0805C-180pF-50V
pins: 1, 2

## C1005C0G1H680J050BA
designator C?, comment 68p,50V
68 pF ±5% 50V Ceramic Capacitor C0G, NP0 0402 (1005 Metric); Manufacturer: TDK; Manufacturer Part Number: C1005C0G1H680J050BA; Manufacturer Lifecycle Status: PRODUCTION (NOT RECOMMENDED FOR NEW DESIGN); Value: 68pF; Temperature Coefficient: 30ppm/°C; Supplier: DigiKey; RoHS: Compliant; Category: Ceramic Capacitors; Stock: 79405; Pricing: 1=0.1, 10=0.036, 50=0.0246, 100=0.021, 500=0.01508, 1000=0.01326, 2500=0.01134, 5000=0.0102 (USD); Case/Package: 0402; Case Code (Imperial): 0402; Case Code (Metric): 1005; China RoHS: Compliant; Depth: 500µm; Dielectric: C0G; Dielectric Material: Ceramic; Height: 500µm; Lead Free: Lead Free; Length: 1mm; Lifecycle Status: NRND; Material: Ceramic; Max Length: 1.05mm; Max Operating Temperature: 125°C; Max Width: 550µm; Min Length: 950µm; Min Operating Temperature: -55°C; Min Width: 450µm; Mounting Technology: Surface Mount; Pins: 2; Number of Terminals: 2; Radiation Hardening: No; REACH SVHC: Yes; Schedule B: 8532240020, 8532240020|8532240020|8532240020|8532240020|8532240020; Termination: SMD/SMT; Tolerance: 5%; Voltage Rating: 50V; Voltage Rating (DC): 50V; Weight: 652.039032µg; Width: 500µm; ComponentLink1URL: https://datasheet.octopart.com:443/C1005C0G1H680J050BA-TDK-datasheet-175423548.pdf?src-supplier=IHS; ComponentLink1Description: https://datasheet.octopart.com:443/C1005C0G1H680J050BA-TDK-datasheet-175423548.pdf?src-supplier=IHS; ComponentLink2URL: https://datasheet.octopart.com:443/C1005C0G1H680J050BA-TDK-datasheet-151546523.pdf?src-supplier=TDK; ComponentLink2Description: https://datasheet.octopart.com:443/C1005C0G1H680J050BA-TDK-datasheet-151546523.pdf?src-supplier=TDK; ComponentLink3URL: https://datasheet.octopart.com:443/C1005C0G1H680J050BA-TDK-datasheet-41194876.pdf?src-supplier=element14+APAC; ComponentLink3Description: https://datasheet.octopart.com:443/C1005C0G1H680J050BA-TDK-datasheet-41194876.pdf?src-supplier=element14+APAC; ComponentLink4URL: https://datasheet.octopart.com:443/C1005C0G1H680J050BA-TDK-datasheet-82475248.pdf?src-supplier=element14+APAC; ComponentLink4Description: https://datasheet.octopart.com:443/C1005C0G1H680J050BA-TDK-datasheet-82475248.pdf?src-supplier=element14+APAC; ComponentLink5URL: https://datasheet.octopart.com:443/C1005C0G1H680J050BA-TDK-datasheet-20681607.pdf?src-supplier=element14+APAC; ComponentLink5Description: https://datasheet.octopart.com:443/C1005C0G1H680J050BA-TDK-datasheet-20681607.pdf?src-supplier=element14+APAC; ComponentLink6URL: https://datasheet.octopart.com:443/C1005C0G1H680J050BA-TDK-datasheet-13376850.pdf?src-supplier=element14+APAC; ComponentLink6Description: https://datasheet.octopart.com:443/C1005C0G1H680J050BA-TDK-datasheet-13376850.pdf?src-supplier=element14+APAC; ComponentLink7URL: https://datasheet.octopart.com:443/C1005C0G1H680J050BA-TDK-datasheet-10978788.pdf?src-supplier=element14+APAC; ComponentLink7Description: https://datasheet.octopart.com:443/C1005C0G1H680J050BA-TDK-datasheet-10978788.pdf?src-supplier=element14+APAC; LCSC PN: C3865634
footprint TDK_C1005-68pf-50v
pins: 1, 2